# Altium footprint library Rele.PcbLib: 2 footprints
Each footprint in its own frame and in the unit in brackets; x right, y up, seen from the top. Pads: shape width x height; smd on the part's side, far side on the other; paste and mask are expansions set on the pad; w line width, h text height; cw(c..) or ccw(c..) is an arc to the next point about the centre after c.
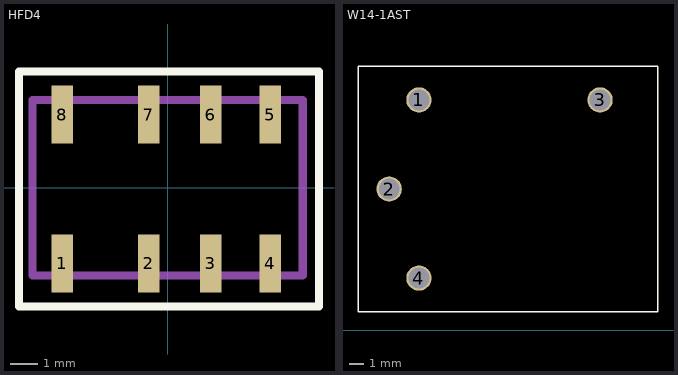
[diagram p0: the footprints below, top view; thin cyan lines are the x and y axes]

## HFD4 [mm]
pads (8):
  rect 0.8x2.15 smd: 1(-3.9,-2.8) 2(-0.7,-2.8) 3(1.6,-2.8) 4(3.8,-2.8) 5(3.8,2.7) 6(1.6,2.7) 7(-0.7,2.7) 8(-3.9,2.7)
Top Overlay:
  lines w0.3: -5.5,-4.4 -5.5,4.3 5.6,4.3 5.6,-4.4 -5.5,-4.4
Mechanical 15 (Mech15):
  lines w0.3: -5,-3.25 -5,3.25 5,3.25 5,-3.25 -5,-3.25
3D body: height 5.65, standoff 0, extent -5,-3.2 5,3.2

## W14-1AST [mm]
pads (4):
  round 1.7 hole 1.4 mask+0.102: 1(7.25,15.5) 2(5.25,9.5) 3(19.45,15.5) 4(7.25,3.5)
Top Overlay:
  lines w0.1: 3.15,1.25 23.35,1.25 23.35,17.75 3.15,17.75 3.15,1.25
3D body: height 15, standoff 0, extent 3.65,1.75 22.85,17.25